# Altium schematic symbol library CH340G.SchLib: 1 symbol
Pins are listed as number, name and electrical type; pins without a type are passive.

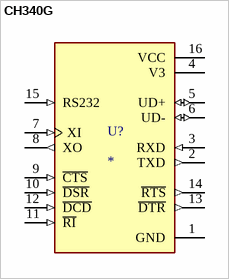
[diagram p0: symbol CH340G]

## CH340G
designator U?
USB Interface Integrated Circuit; MP: Ch340G; MF: WCH; Value: *; SnapEDA_Link: https://www.snapeda.com/parts/Ch340G/WCH/view-part/?ref=snap; Check_prices: https://www.snapeda.com/parts/Ch340G/WCH/view-part/?ref=eda; Availability: Not in stock; Price: None; Package: None
footprint SOIC127P600X180-16N
pins: 1 GND (power), 2 TXD (out), 3 RXD (in), 4 V3 (power), 5 UD+ (io), 6 UD- (io), 7 XI (in), 8 XO (out), 9 ~{CTS} (in), 10 ~{DSR} (in), 11 ~{RI} (in), 12 ~{DCD} (in), 13 ~{DTR} (out), 14 ~{RTS} (out), 15 RS232 (in), 16 VCC (power)